# EAGLE library part 555_SMD (library bao)
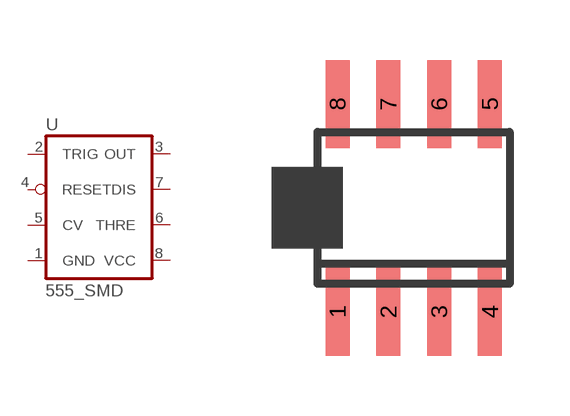
[diagram p15: symbol with the pads of SOIC08; footprint SOIC08]

Designator prefix -

## 555_SMD_SMD (NHPREF: 15; POPULATE: TRUE; VALUE: NE555)  [SOIC08]
1  GND  pwr
2  TRIG  in
3  OUT  out
4  RESET  in
5  CV  in
6  THRE  in
7  DIS  in
8  VCC  pwr

## Footprint SOIC08 (pad centres in mm)
Small Outline Package 8 NS Package M08A
smd 0.6 x 2.2: 1 -1.905,-2.6; 2 -0.635,-2.6; 3 0.635,-2.6; 4 1.905,-2.6; 5 1.905,2.6; 6 0.635,2.6; 7 -0.635,2.6; 8 -1.905,2.6